# Altium schematic symbol library TLC5941PWPR.Schlib: 1 symbol
Pins are listed as number, name and electrical type; pins without a type are passive.

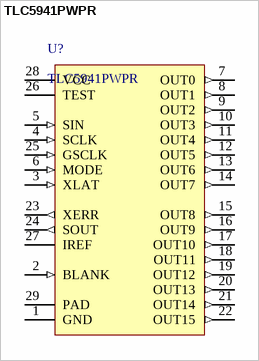
[diagram p0: symbol TLC5941PWPR]

## TLC5941PWPR
designator U?
LED Driver IC 16 Output Linear Shift Register  Dimming 80mA 28-HTSSOP
pins: 1 GND (power), 2 BLANK (in), 3 XLAT (in), 4 SCLK (in), 5 SIN (in), 6 MODE (in), 7 OUT0 (out), 8 OUT1 (out), 9 OUT2 (out), 10 OUT3 (out), 11 OUT4 (out), 12 OUT5 (out), 13 OUT6 (out), 14 OUT7 (out), 15 OUT8 (out), 16 OUT9 (out), 17 OUT10 (out), 18 OUT11 (out), 19 OUT12 (out), 20 OUT13 (out), 21 OUT14 (out), 22 OUT15 (out), 23 XERR (out), 24 SOUT (out), 25 GSCLK (in), 26 TEST, 27 IREF, 28 VCC (power), 29 PAD